# EAGLE library part MCP162? (library ElevenDroids - ICs)
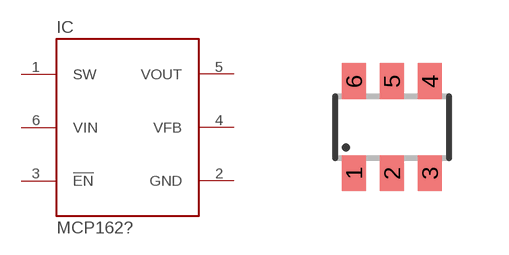
[diagram p15: symbol with the pads of SOT23-6; footprint SOT23-6]

Designator prefix IC

## MCP1623, MCP1624  [SOT23-6]
1  SW  out
2  GND  pwr
3  !EN  in
4  VFB  in
5  VOUT  out
6  VIN  in

## Footprint SOT23-6 (pad centres in mm)
Small Outline Transistor 6 lead
smd 0.6 x 0.9: 1 -0.95,-1.15; 2 0,-1.15; 3 0.95,-1.15; 4 0.95,1.15; 5 0,1.15; 6 -0.95,1.15